# Altium schematic symbol library LED_COMA_3GRN_2COM_1RED.SchLib: 1 symbol
Pins are listed as number, name and electrical type; pins without a type are passive.

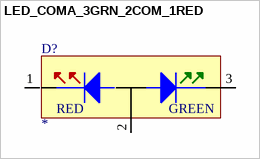
[diagram p0: symbol LED_COMA_3GRN_2COM_1RED]

## LED_COMA_3GRN_2COM_1RED
designator D?
pins: 1, 2, 3
text: RED; GREEN